# EAGLE library part LTP5901 (library Cool_Electricity)
LTP5901
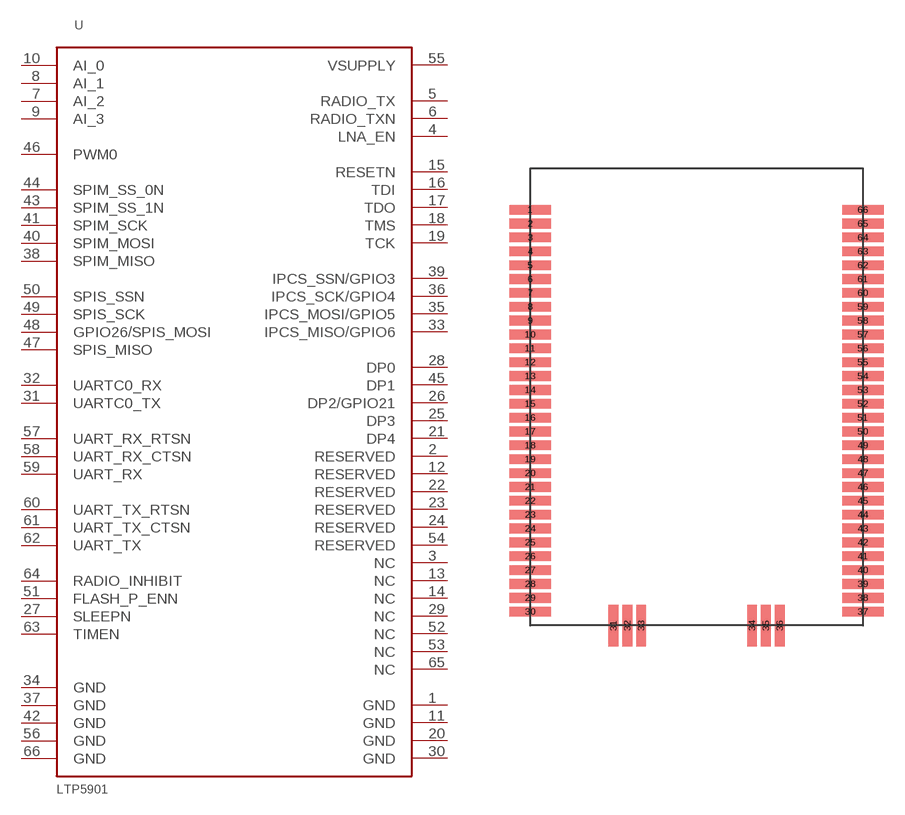
[diagram p3: symbol with the pads of LTP5901_MODULE; footprint LTP5901_MODULE]

Designator prefix U

## LTP5901  [LTP5901_MODULE]
1  GND
2  RESERVED
3  NC
4  LNA_EN
5  RADIO_TX
6  RADIO_TXN
7  AI_2
8  AI_1
9  AI_3
10  AI_0
11  GND
12  RESERVED
13  NC
14  NC
15  RESETN
16  TDI
17  TDO
18  TMS
19  TCK
20  GND
21  DP4
22  RESERVED
23  RESERVED
24  RESERVED
25  DP3
26  DP2/GPIO21
27  SLEEPN
28  DP0
29  NC
30  GND
31  UARTC0_TX
32  UARTC0_RX
33  IPCS_MISO/GPIO6
34  GND
35  IPCS_MOSI/GPIO5
36  IPCS_SCK/GPIO4
37  GND
38  SPIM_MISO
39  IPCS_SSN/GPIO3
40  SPIM_MOSI
41  SPIM_SCK
42  GND
43  SPIM_SS_1N
44  SPIM_SS_0N
45  DP1
46  PWM0
47  SPIS_MISO
48  GPIO26/SPIS_MOSI
49  SPIS_SCK
50  SPIS_SSN
51  FLASH_P_ENN
52  NC
53  NC
54  RESERVED
55  VSUPPLY
56  GND
57  UART_RX_RTSN
58  UART_RX_CTSN
59  UART_RX
60  UART_TX_RTSN
61  UART_TX_CTSN
62  UART_TX
63  TIMEN
64  RADIO_INHIBIT
65  NC
66  GND

## Footprint LTP5901_MODULE (pad centres in mm)
smd 3 x 0.7: 1 -12,13.5; 2 -12,12.5; 3 -12,11.5; 4 -12,10.5; 5 -12,9.5; 6 -12,8.5; 7 -12,7.5; 8 -12,6.5; 9 -12,5.5; 10 -12,4.5; 11 -12,3.5; 12 -12,2.5; 13 -12,1.5; 14 -12,0.5; 15 -12,-0.5; 16 -12,-1.5; 17 -12,-2.5; 18 -12,-3.5; 19 -12,-4.5; 20 -12,-5.5; 21 -12,-6.5; 22 -12,-7.5; 23 -12,-8.5; 24 -12,-9.5; 25 -12,-10.5; 26 -12,-11.5; 27 -12,-12.5; 28 -12,-13.5; 29 -12,-14.5; 30 -12,-15.5; 37 12,-15.5; 38 12,-14.5; 39 12,-13.5; 40 12,-12.5; 41 12,-11.5; 42 12,-10.5; 43 12,-9.5; 44 12,-8.5; 45 12,-7.5; 46 12,-6.5; 47 12,-5.5; 48 12,-4.5; 49 12,-3.5; 50 12,-2.5; 51 12,-1.5; 52 12,-0.5; 53 12,0.5; 54 12,1.5; 55 12,2.5; 56 12,3.5; 57 12,4.5; 58 12,5.5; 59 12,6.5; 60 12,7.5; 61 12,8.5; 62 12,9.5; 63 12,10.5; 64 12,11.5; 65 12,12.5; 66 12,13.5
smd 0.7 x 3: 31 -6,-16.5; 32 -5,-16.5; 33 -4,-16.5; 34 4,-16.5; 35 5,-16.5; 36 6,-16.5